# Altium schematic symbol library Processor.SchLib: 13 symbols
Pins are listed as number, name and electrical type; pins without a type are passive.

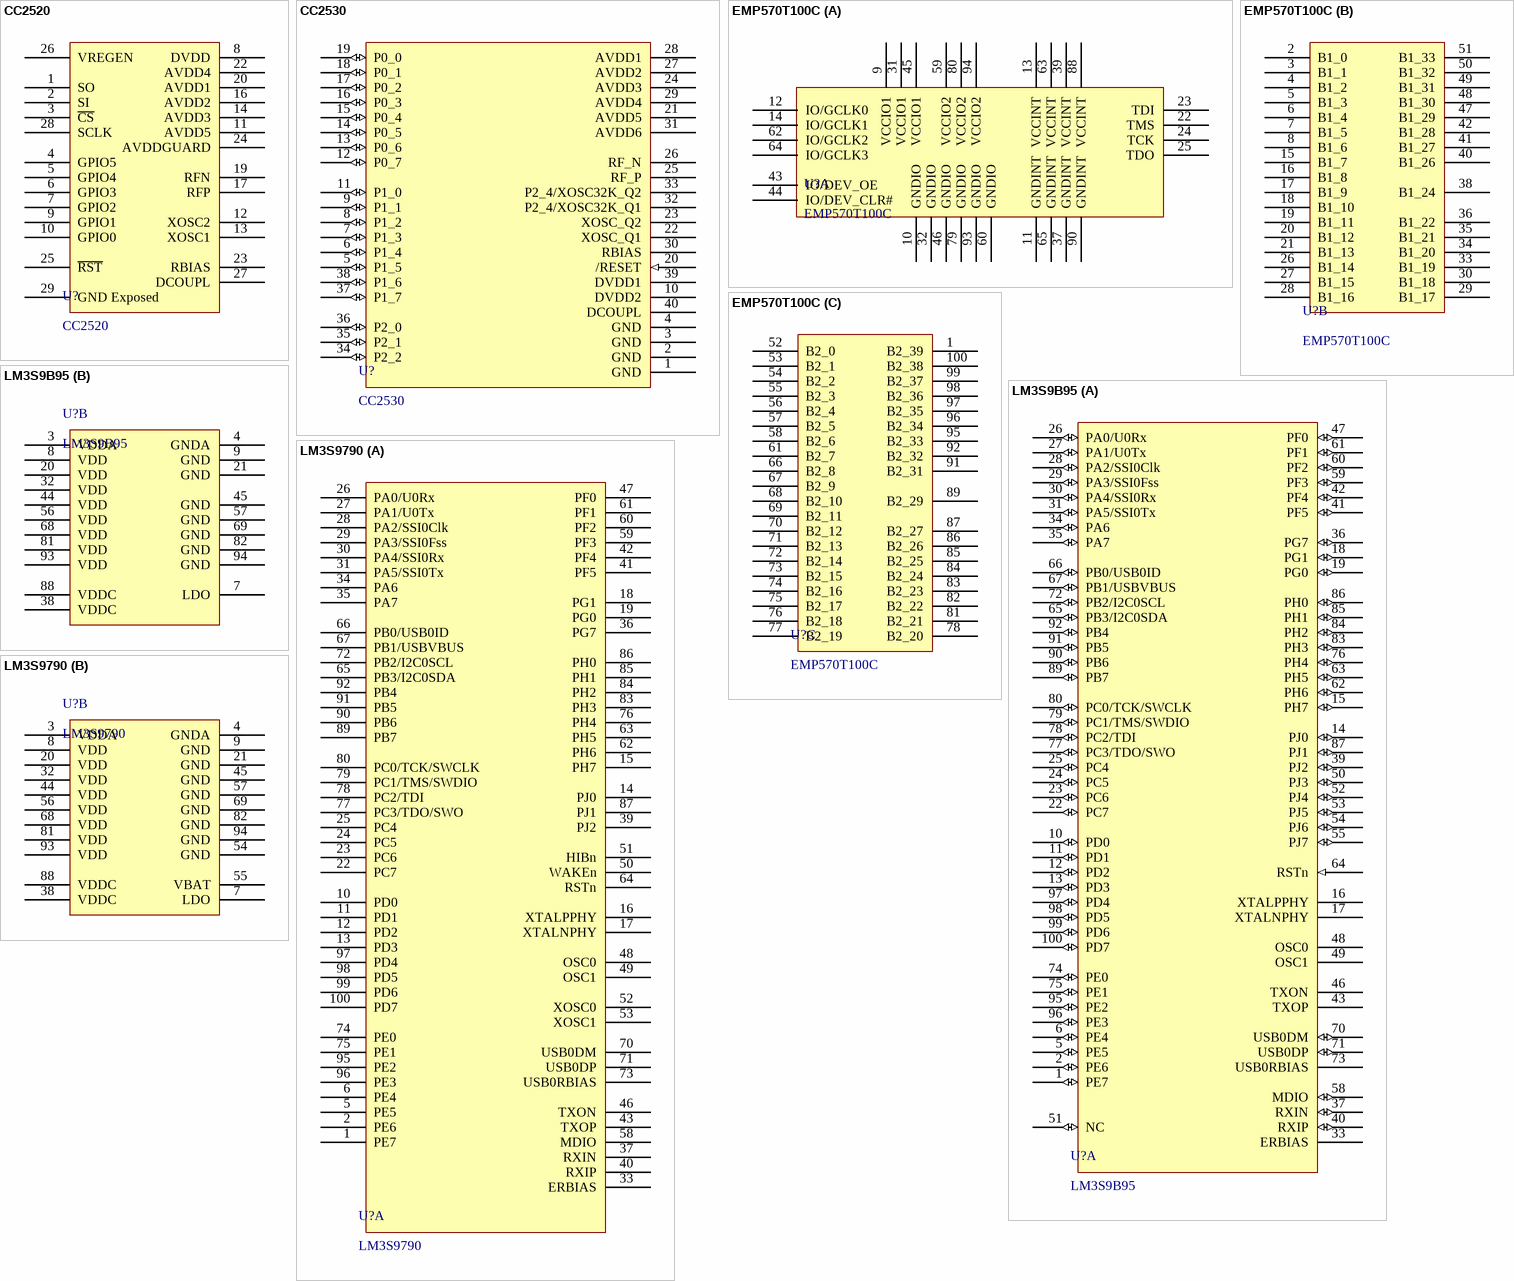
[diagram p0: symbols CC2520 to LM3S9790]

## CC2520
designator U?
ZigBee RF Tranciver
pins: 1 SO, 2 SI, 3 ~{CS}, 4 GPIO5, 5 GPIO4, 6 GPIO3, 7 GPIO2, 8 DVDD (power), 9 GPIO1, 10 GPIO0, 11 AVDD5 (power), 12 XOSC2, 13 XOSC1, 14 AVDD3 (power), 16 AVDD2 (power), 17 RFP, 19 RFN, 20 AVDD1 (power), 22 AVDD4 (power), 23 RBIAS, 24 AVDDGUARD (power), 25 ~{RST}, 26 VREGEN, 27 DCOUPL, 28 SCLK, 29 GND Exposed (power)

## CC2530
designator U?
TI ZigBee SOC
footprint VQFN40
pins: 1 GND (power), 2 GND (power), 3 GND (power), 4 GND (power), 5 P1_5 (io), 6 P1_4 (io), 7 P1_3 (io), 8 P1_2 (io), 9 P1_1 (io), 10 DVDD2 (power), 11 P1_0 (io), 12 P0_7 (io), 13 P0_6 (io), 14 P0_5 (io), 15 P0_4 (io), 16 P0_3 (io), 17 P0_2 (io), 18 P0_1 (io), 19 P0_0 (io), 20 /RESET (in), 21 AVDD5 (power), 22 XOSC_Q1, 23 XOSC_Q2, 24 AVDD3 (power), 25 RF_P, 26 RF_N, 27 AVDD2 (power), 28 AVDD1 (power), 29 AVDD4 (power), 30 RBIAS, 31 AVDD6 (power), 32 P2_4/XOSC32K_Q1, 33 P2_4/XOSC32K_Q2, 34 P2_2 (io), 35 P2_1 (io), 36 P2_0 (io), 37 P1_7 (io), 38 P1_6 (io), 39 DVDD1 (power), 40 DCOUPL (power)

## EMP570T100C
designator U?
Altera CPLD-V.B
footprint TQFP100_L (100-Pin Thin Quad Flat Pack 0.5 mm Pitch, IPC High Density)
part A pins: 9 VCCIO1, 10 GNDIO, 11 GNDINT, 12 IO/GCLK0, 13 VCCINT, 14 IO/GCLK1, 22 TMS, 23 TDI, 24 TCK, 25 TDO, 31 VCCIO1, 32 GNDIO, 37 GNDINT, 39 VCCINT, 43 IO/DEV_OE, 44 IO/DEV_CLR#, 45 VCCIO1, 46 GNDIO, 59 VCCIO2, 60 GNDIO, 62 IO/GCLK2, 63 VCCINT, 64 IO/GCLK3, 65 GNDINT, 79 GNDIO, 80 VCCIO2, 88 VCCINT, 90 GNDINT, 93 GNDIO, 94 VCCIO2
part B pins: 2 B1_0, 3 B1_1, 4 B1_2, 5 B1_3, 6 B1_4, 7 B1_5, 8 B1_6, 15 B1_7, 16 B1_8, 17 B1_9, 18 B1_10, 19 B1_11, 20 B1_12, 21 B1_13, 26 B1_14, 27 B1_15, 28 B1_16, 29 B1_17, 30 B1_18, 33 B1_19, 34 B1_20, 35 B1_21, 36 B1_22, 38 B1_24, 40 B1_26, 41 B1_27, 42 B1_28, 47 B1_29, 48 B1_30, 49 B1_31, 50 B1_32, 51 B1_33
part C pins: 1 B2_39, 52 B2_0, 53 B2_1, 54 B2_2, 55 B2_3, 56 B2_4, 57 B2_5, 58 B2_6, 61 B2_7, 66 B2_8, 67 B2_9, 68 B2_10, 69 B2_11, 70 B2_12, 71 B2_13, 72 B2_14, 73 B2_15, 74 B2_16, 75 B2_17, 76 B2_18, 77 B2_19, 78 B2_20, 81 B2_21, 82 B2_22, 83 B2_23, 84 B2_24, 85 B2_25, 86 B2_26, 87 B2_27, 89 B2_29, 91 B2_31, 92 B2_32, 95 B2_33, 96 B2_34, 97 B2_35, 98 B2_36, 99 B2_37, 100 B2_38

## LM3S9B95
designator U?
TI Stellaris Cortex-M3
part A pins: 1 PE7 (io), 2 PE6 (io), 5 PE5 (io), 6 PE4 (io), 10 PD0 (io), 11 PD1 (io), 12 PD2 (io), 13 PD3 (io), 14 PJ0 (io), 15 PH7 (io), 16 XTALPPHY, 17 XTALNPHY, 18 PG1 (io), 19 PG0 (io), 22 PC7 (io), 23 PC6 (io), 24 PC5 (io), 25 PC4 (io), 26 PA0/U0Rx (io), 27 PA1/U0Tx (io), 28 PA2/SSI0Clk (io), 29 PA3/SSI0Fss (io), 30 PA4/SSI0Rx (io), 31 PA5/SSI0Tx (io), 33 ERBIAS, 34 PA6 (io), 35 PA7 (io), 36 PG7 (io), 37 RXIN (io), 39 PJ2 (io), 40 RXIP (io), 41 PF5 (io), 42 PF4 (io), 43 TXOP, 46 TXON, 47 PF0 (io), 48 OSC0, 49 OSC1, 50 PJ3 (io), 51 NC (io), 52 PJ4 (io), 53 PJ5 (io), 54 PJ6 (io), 55 PJ7 (io), 58 MDIO (io), 59 PF3 (io), 60 PF2 (io), 61 PF1 (io), 62 PH6 (io), 63 PH5 (io), 64 RSTn (in), 65 PB3/I2C0SDA (io), 66 PB0/USB0ID (io), 67 PB1/USBVBUS (io), 70 USB0DM (io), 71 USB0DP (io), 72 PB2/I2C0SCL (io), 73 USB0RBIAS, 74 PE0 (io), 75 PE1 (io), 76 PH4 (io), 77 PC3/TDO/SWO (io), 78 PC2/TDI (io), 79 PC1/TMS/SWDIO (io), 80 PC0/TCK/SWCLK (io), 83 PH3 (io), 84 PH2 (io), 85 PH1 (io), 86 PH0 (io), 87 PJ1 (io), 89 PB7 (io), 90 PB6 (io), 91 PB5 (io), 92 PB4 (io), 95 PE2 (io), 96 PE3 (io), 97 PD4 (io), 98 PD5 (io), 99 PD6 (io), 100 PD7 (io)
part B pins: 3 VDDA (power), 4 GNDA (power), 7 LDO (power), 8 VDD (power), 9 GND (power), 20 VDD (power), 21 GND (power), 32 VDD (power), 38 VDDC (power), 44 VDD (power), 45 GND (power), 56 VDD (power), 57 GND (power), 68 VDD (power), 69 GND (power), 81 VDD (power), 82 GND (power), 88 VDDC (power), 93 VDD (power), 94 GND (power)

## LM3S9790
designator U?
TI Stellaris Cortex-M3
part A pins: 1 PE7 (power), 2 PE6 (power), 5 PE5 (power), 6 PE4 (power), 10 PD0 (power), 11 PD1 (power), 12 PD2 (power), 13 PD3 (power), 14 PJ0 (power), 15 PH7 (power), 16 XTALPPHY (power), 17 XTALNPHY (power), 18 PG1 (power), 19 PG0 (power), 22 PC7 (power), 23 PC6 (power), 24 PC5 (power), 25 PC4 (power), 26 PA0/U0Rx (power), 27 PA1/U0Tx (power), 28 PA2/SSI0Clk (power), 29 PA3/SSI0Fss (power), 30 PA4/SSI0Rx (power), 31 PA5/SSI0Tx (power), 33 ERBIAS (power), 34 PA6 (power), 35 PA7 (power), 36 PG7 (power), 37 RXIN (power), 39 PJ2 (power), 40 RXIP (power), 41 PF5 (power), 42 PF4 (power), 43 TXOP (power), 46 TXON (power), 47 PF0 (power), 48 OSC0 (power), 49 OSC1 (power), 50 WAKEn (power), 51 HIBn (power), 52 XOSC0 (power), 53 XOSC1 (power), 58 MDIO (power), 59 PF3 (power), 60 PF2 (power), 61 PF1 (power), 62 PH6 (power), 63 PH5 (power), 64 RSTn (power), 65 PB3/I2C0SDA (power), 66 PB0/USB0ID (power), 67 PB1/USBVBUS (power), 70 USB0DM (power), 71 USB0DP (power), 72 PB2/I2C0SCL (power), 73 USB0RBIAS (power), 74 PE0 (power), 75 PE1 (power), 76 PH4 (power), 77 PC3/TDO/SWO (power), 78 PC2/TDI (power), 79 PC1/TMS/SWDIO (power), 80 PC0/TCK/SWCLK (power), 83 PH3 (power), 84 PH2 (power), 85 PH1 (power), 86 PH0 (power), 87 PJ1 (power), 89 PB7 (power), 90 PB6 (power), 91 PB5 (power), 92 PB4 (power), 95 PE2 (power), 96 PE3 (power), 97 PD4 (power), 98 PD5 (power), 99 PD6 (power), 100 PD7 (power)
part B pins: 3 VDDA (power), 4 GNDA (power), 7 LDO (power), 8 VDD (power), 9 GND (power), 20 VDD (power), 21 GND (power), 32 VDD (power), 38 VDDC (power), 44 VDD (power), 45 GND (power), 54 GND (power), 55 VBAT (power), 56 VDD (power), 57 GND (power), 68 VDD (power), 69 GND (power), 81 VDD (power), 82 GND (power), 88 VDDC (power), 93 VDD (power), 94 GND (power)

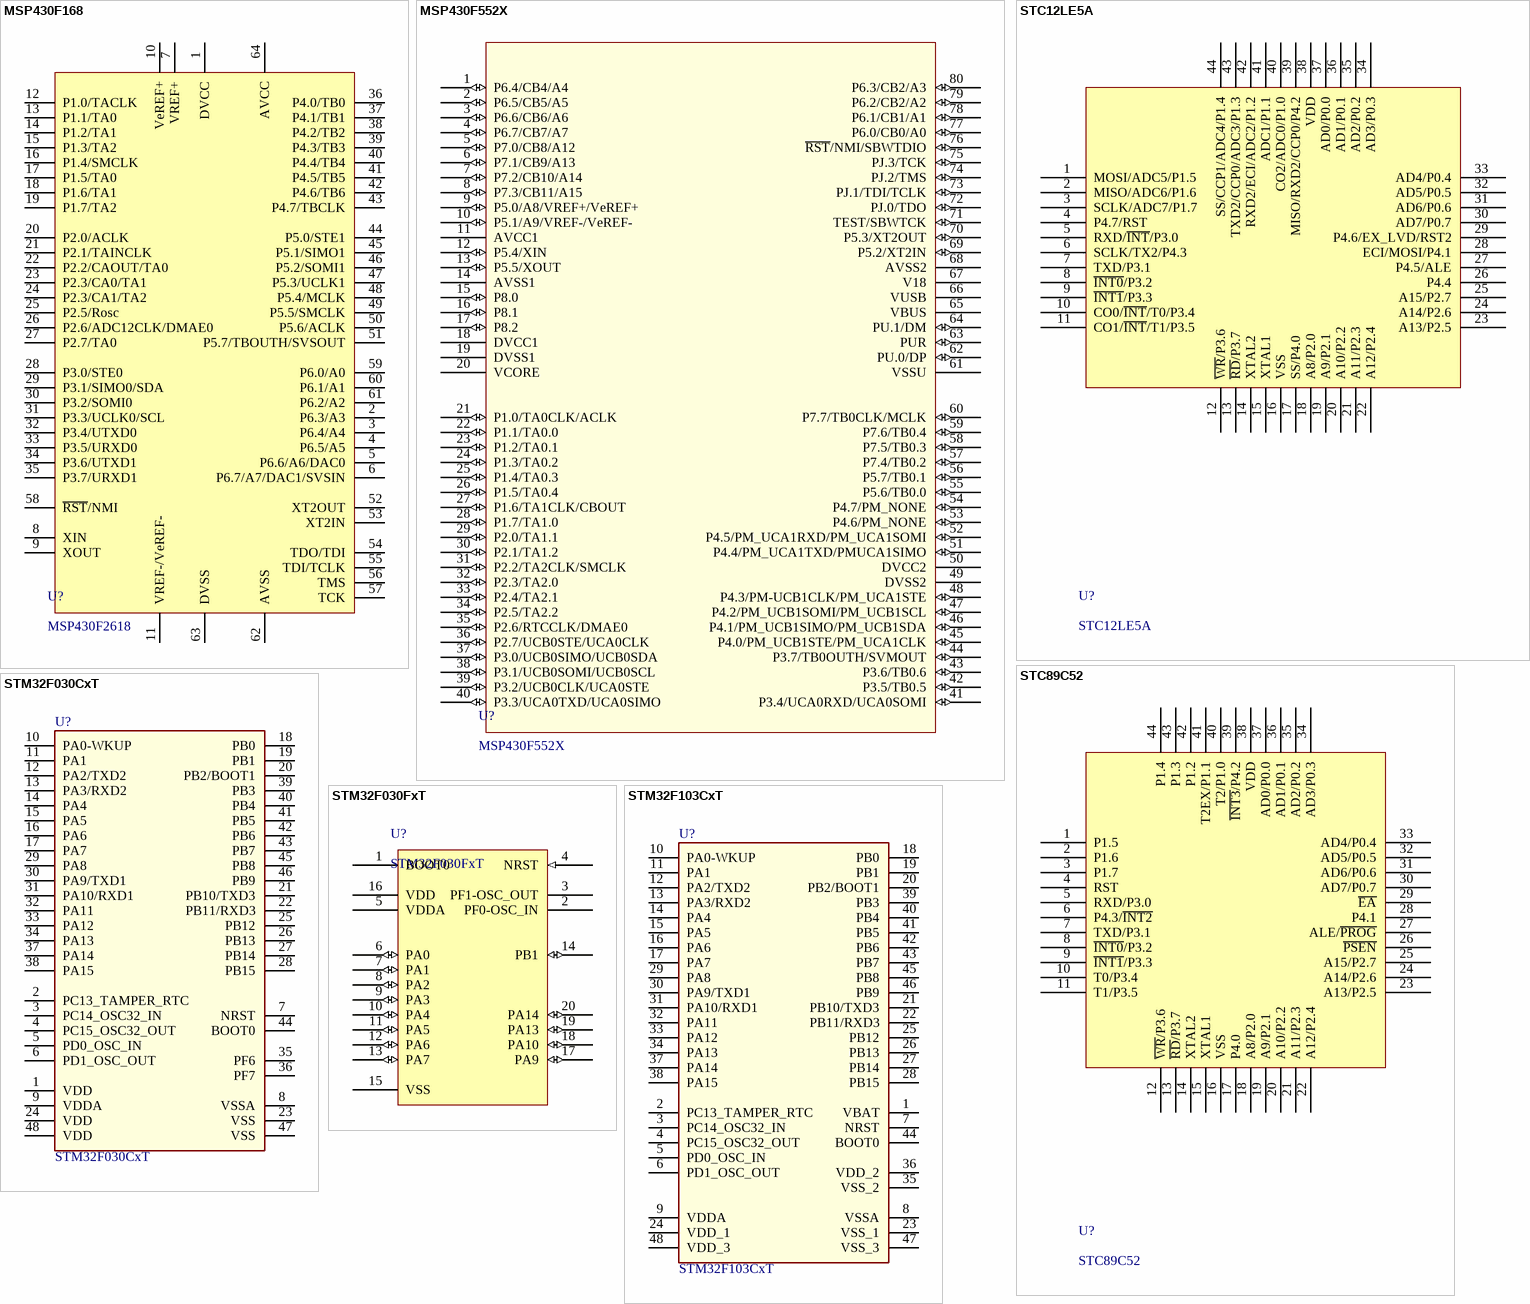
[diagram p1: symbols MSP430F168 to STM32F103CxT]

## MSP430F168
designator U?, comment MSP430F2618
Mixed Signal Microcontroller
footprint PM064_M (64-Pin Thin Quad Flat Pack 0.5 mm Pitch, IPC Low Density)
pins: 1 DVCC (power), 2 P6.3/A3 (power), 3 P6.4/A4 (power), 4 P6.5/A5 (power), 5 P6.6/A6/DAC0 (power), 6 P6.7/A7/DAC1/SVSIN (power), 7 VREF+ (power), 8 XIN (power), 9 XOUT (power), 10 VeREF+ (power), 11 VREF-/VeREF- (power), 12 P1.0/TACLK (power), 13 P1.1/TA0 (power), 14 P1.2/TA1 (power), 15 P1.3/TA2 (power), 16 P1.4/SMCLK (power), 17 P1.5/TA0 (power), 18 P1.6/TA1 (power), 19 P1.7/TA2 (power), 20 P2.0/ACLK (power), 21 P2.1/TAINCLK (power), 22 P2.2/CAOUT/TA0 (power), 23 P2.3/CA0/TA1 (power), 24 P2.3/CA1/TA2 (power), 25 P2.5/Rosc (power), 26 P2.6/ADC12CLK/DMAE0 (power), 27 P2.7/TA0 (power), 28 P3.0/STE0 (power), 29 P3.1/SIMO0/SDA (power), 30 P3.2/SOMI0 (power), 31 P3.3/UCLK0/SCL (power), 32 P3.4/UTXD0 (power), 33 P3.5/URXD0 (power), 34 P3.6/UTXD1 (power), 35 P3.7/URXD1 (power), 36 P4.0/TB0 (power), 37 P4.1/TB1 (power), 38 P4.2/TB2 (power), 39 P4.3/TB3 (power), 40 P4.4/TB4 (power), 41 P4.5/TB5 (power), 42 P4.6/TB6 (power), 43 P4.7/TBCLK (power), 44 P5.0/STE1 (power), 45 P5.1/SIMO1 (power), 46 P5.2/SOMI1 (power), 47 P5.3/UCLK1 (power), 48 P5.4/MCLK (power), 49 P5.5/SMCLK (power), 50 P5.6/ACLK (power), 51 P5.7/TBOUTH/SVSOUT (power), 52 XT2OUT (power), 53 XT2IN (power), 54 TDO/TDI (power), 55 TDI/TCLK (power), 56 TMS (power), 57 TCK (power), 58 ~{RST}/NMI (power), 59 P6.0/A0 (power), 60 P6.1/A1 (power), 61 P6.2/A2 (power), 62 AVSS (power), 63 DVSS (power), 64 AVCC (power)

## MSP430F552X
designator U?
MSP430 MCU
pins: 1 P6.4/CB4/A4 (io), 2 P6.5/CB5/A5 (io), 3 P6.6/CB6/A6 (io), 4 P6.7/CB7/A7 (io), 5 P7.0/CB8/A12 (io), 6 P7.1/CB9/A13 (io), 7 P7.2/CB10/A14 (io), 8 P7.3/CB11/A15 (io), 9 P5.0/A8/VREF+/VeREF+ (io), 10 P5.1/A9/VREF-/VeREF- (io), 11 AVCC1 (power), 12 P5.4/XIN (io), 13 P5.5/XOUT (io), 14 AVSS1 (power), 15 P8.0 (io), 16 P8.1 (io), 17 P8.2 (io), 18 DVCC1 (power), 19 DVSS1 (power), 20 VCORE (power), 21 P1.0/TA0CLK/ACLK (io), 22 P1.1/TA0.0 (io), 23 P1.2/TA0.1 (io), 24 P1.3/TA0.2 (io), 25 P1.4/TA0.3 (io), 26 P1.5/TA0.4 (io), 27 P1.6/TA1CLK/CBOUT (io), 28 P1.7/TA1.0 (io), 29 P2.0/TA1.1 (io), 30 P2.1/TA1.2 (io), 31 P2.2/TA2CLK/SMCLK (io), 32 P2.3/TA2.0 (io), 33 P2.4/TA2.1 (io), 34 P2.5/TA2.2 (io), 35 P2.6/RTCCLK/DMAE0 (io), 36 P2.7/UCB0STE/UCA0CLK (io), 37 P3.0/UCB0SIMO/UCB0SDA (io), 38 P3.1/UCB0SOMI/UCB0SCL (io), 39 P3.2/UCB0CLK/UCA0STE (io), 40 P3.3/UCA0TXD/UCA0SIMO (io), 41 P3.4/UCA0RXD/UCA0SOMI (io), 42 P3.5/TB0.5 (io), 43 P3.6/TB0.6 (io), 44 P3.7/TB0OUTH/SVMOUT (io), 45 P4.0/PM_UCB1STE/PM_UCA1CLK (io), 46 P4.1/PM_UCB1SIMO/PM_UCB1SDA (io), 47 P4.2/PM_UCB1SOMI/PM_UCB1SCL (io), 48 P4.3/PM-UCB1CLK/PM_UCA1STE (io), 49 DVSS2 (power), 50 DVCC2 (power), 51 P4.4/PM_UCA1TXD/PMUCA1SIMO (io), 52 P4.5/PM_UCA1RXD/PM_UCA1SOMI (io), 53 P4.6/PM_NONE (io), 54 P4.7/PM_NONE (io), 55 P5.6/TB0.0 (io), 56 P5.7/TB0.1 (io), 57 P7.4/TB0.2 (io), 58 P7.5/TB0.3 (io), 59 P7.6/TB0.4 (io), 60 P7.7/TB0CLK/MCLK (io), 61 VSSU (power), 62 PU.0/DP (io), 63 PUR (io), 64 PU.1/DM (io), 65 VBUS (power), 66 VUSB (power), 67 V18 (power), 68 AVSS2 (power), 69 P5.2/XT2IN (io), 70 P5.3/XT2OUT (io), 71 TEST/SBWTCK (io), 72 PJ.0/TDO (io), 73 PJ.1/TDI/TCLK (io), 74 PJ.2/TMS (io), 75 PJ.3/TCK (io), 76 ~{RST}/NMI/SBWTDIO (io), 77 P6.0/CB0/A0 (io), 78 P6.1/CB1/A1 (io), 79 P6.2/CB2/A2 (io), 80 P6.3/CB2/A3 (io)

## STC12LE5A
designator U?
footprint TQFP44
pins: 1 MOSI/ADC5/P1.5, 2 MISO/ADC6/P1.6, 3 SCLK/ADC7/P1.7, 4 P4.7/RST, 5 RXD/~{INT}/P3.0, 6 SCLK/TX2/P4.3, 7 TXD/P3.1, 8 ~{INT0}/P3.2, 9 ~{INT1}/P3.3, 10 CO0/~{INT}/T0/P3.4, 11 CO1/~{INT}/T1/P3.5, 12 ~{WR}/P3.6, 13 ~{RD}/P3.7, 14 XTAL2, 15 XTAL1, 16 VSS, 17 SS/P4.0, 18 A8/P2.0, 19 A9/P2.1, 20 A10/P2.2, 21 A11/P2.3, 22 A12/P2.4, 23 A13/P2.5, 24 A14/P2.6, 25 A15/P2.7, 26 P4.4, 27 P4.5/ALE, 28 ECI/MOSI/P4.1, 29 P4.6/EX_LVD/RST2, 30 AD7/P0.7, 31 AD6/P0.6, 32 AD5/P0.5, 33 AD4/P0.4, 34 AD3/P0.3, 35 AD2/P0.2, 36 AD1/P0.1, 37 AD0/P0.0, 38 VDD, 39 MISO/RXD2/CCP0/P4.2, 40 CO2/ADC0/P1.0, 41 ADC1/P1.1, 42 RXD2/ECI/ADC2/P1.2, 43 TXD2/CCP0/ADC3/P1.3, 44 SS/CCP1/ADC4/P1.4

## STC89C52
designator U?
footprint TQFP44
pins: 1 P1.5, 2 P1.6, 3 P1.7, 4 RST, 5 RXD/P3.0, 6 P4.3/~{INT2}, 7 TXD/P3.1, 8 ~{INT0}/P3.2, 9 ~{INT1}/P3.3, 10 T0/P3.4, 11 T1/P3.5, 12 ~{WR}/P3.6, 13 ~{RD}/P3.7, 14 XTAL2, 15 XTAL1, 16 VSS, 17 P4.0, 18 A8/P2.0, 19 A9/P2.1, 20 A10/P2.2, 21 A11/P2.3, 22 A12/P2.4, 23 A13/P2.5, 24 A14/P2.6, 25 A15/P2.7, 26 ~{PSEN}, 27 ALE/~{PROG}, 28 P4.1, 29 ~{EA}, 30 AD7/P0.7, 31 AD6/P0.6, 32 AD5/P0.5, 33 AD4/P0.4, 34 AD3/P0.3, 35 AD2/P0.2, 36 AD1/P0.1, 37 AD0/P0.0, 38 VDD, 39 ~{INT3}/P4.2, 40 T2/P1.0, 41 T2EX/P1.1, 42 P1.2, 43 P1.3, 44 P1.4

## STM32F030CxT
designator U?
Cortex M0, 48-pin LQFP
footprint LQFP-48
pins: 1 VDD, 2 PC13_TAMPER_RTC, 3 PC14_OSC32_IN, 4 PC15_OSC32_OUT, 5 PD0_OSC_IN, 6 PD1_OSC_OUT, 7 NRST, 8 VSSA, 9 VDDA, 10 PA0-WKUP, 11 PA1, 12 PA2/TXD2, 13 PA3/RXD2, 14 PA4, 15 PA5, 16 PA6, 17 PA7, 18 PB0, 19 PB1, 20 PB2/BOOT1, 21 PB10/TXD3, 22 PB11/RXD3, 23 VSS, 24 VDD, 25 PB12, 26 PB13, 27 PB14, 28 PB15, 29 PA8, 30 PA9/TXD1, 31 PA10/RXD1, 32 PA11, 33 PA12, 34 PA13, 35 PF6, 36 PF7, 37 PA14, 38 PA15, 39 PB3, 40 PB4, 41 PB5, 42 PB6, 43 PB7, 44 BOOT0, 45 PB8, 46 PB9, 47 VSS, 48 VDD

## STM32F030FxT
designator U?
Cortex M0, 20-pin TSSOP
footprint TSSOP20 (Shrink Small Outline; 20 Leads; Body Width 4.4 mm; Pitch 0.65 mm)
pins: 1 BOOT0, 2 PF0-OSC_IN, 3 PF1-OSC_OUT, 4 NRST (in), 5 VDDA (power), 6 PA0 (io), 7 PA1 (io), 8 PA2 (io), 9 PA3 (io), 10 PA4 (io), 11 PA5 (io), 12 PA6 (io), 13 PA7 (io), 14 PB1 (io), 15 VSS (power), 16 VDD (power), 17 PA9 (io), 18 PA10 (io), 19 PA13 (io), 20 PA14 (io)

## STM32F103CxT
designator U?
Cortex M3, 48-pin LQFP
footprint LQFP-48
pins: 1 VBAT, 2 PC13_TAMPER_RTC, 3 PC14_OSC32_IN, 4 PC15_OSC32_OUT, 5 PD0_OSC_IN, 6 PD1_OSC_OUT, 7 NRST, 8 VSSA, 9 VDDA, 10 PA0-WKUP, 11 PA1, 12 PA2/TXD2, 13 PA3/RXD2, 14 PA4, 15 PA5, 16 PA6, 17 PA7, 18 PB0, 19 PB1, 20 PB2/BOOT1, 21 PB10/TXD3, 22 PB11/RXD3, 23 VSS_1, 24 VDD_1, 25 PB12, 26 PB13, 27 PB14, 28 PB15, 29 PA8, 30 PA9/TXD1, 31 PA10/RXD1, 32 PA11, 33 PA12, 34 PA13, 35 VSS_2, 36 VDD_2, 37 PA14, 38 PA15, 39 PB3, 40 PB4, 41 PB5, 42 PB6, 43 PB7, 44 BOOT0, 45 PB8, 46 PB9, 47 VSS_3, 48 VDD_3

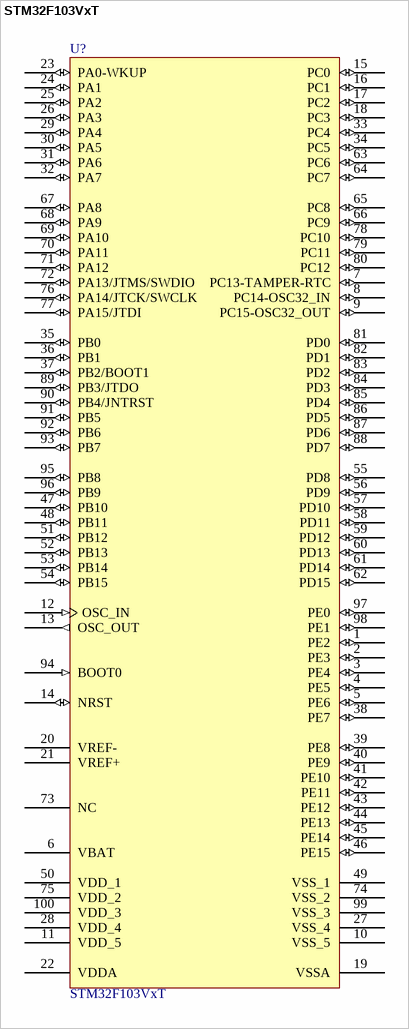
[diagram p2: symbol STM32F103VxT]

## STM32F103VxT
designator U?
Cortex M3, 100-pin LQFP; Published: 30-May-2008; DatasheetVersion: rev6, Mar-2008; PackageVersion: Mar-2008; PackageReference: LQFP100; Publisher: Altium Limited; PackageDescription: 100-Pin Low-Profile Quad Flat Pack, 14 x 14 mm Body, 0.5 mm Pitch (LQFP100); ComponentLink1Description: Manufacturer Link; ComponentLink1URL: www.st.com/stm32; ComponentLink2Description: Datasheet; ComponentLink2URL: http://www.st.com/stonline/products/literature/ds/13587.pdf
footprint LQFP100_N (Thin QFP, 100-Leads, Body 14x14mm, Pitch 0.5mm, IPC Medium Density)
pins: 1 PE2 (io), 2 PE3 (io), 3 PE4 (io), 4 PE5 (io), 5 PE6 (io), 6 VBAT (power), 7 PC13-TAMPER-RTC (io), 8 PC14-OSC32_IN (io), 9 PC15-OSC32_OUT (io), 10 VSS_5 (power), 11 VDD_5 (power), 12 OSC_IN (in), 13 OSC_OUT (out), 14 NRST (io), 15 PC0 (io), 16 PC1 (io), 17 PC2 (io), 18 PC3 (io), 19 VSSA (power), 20 VREF- (power), 21 VREF+ (power), 22 VDDA (power), 23 PA0-WKUP (io), 24 PA1 (io), 25 PA2 (io), 26 PA3 (io), 27 VSS_4 (power), 28 VDD_4 (power), 29 PA4 (io), 30 PA5 (io), 31 PA6 (io), 32 PA7 (io), 33 PC4 (io), 34 PC5 (io), 35 PB0 (io), 36 PB1 (io), 37 PB2/BOOT1 (io), 38 PE7 (io), 39 PE8 (io), 40 PE9 (io), 41 PE10 (io), 42 PE11 (io), 43 PE12 (io), 44 PE13 (io), 45 PE14 (io), 46 PE15 (io), 47 PB10 (io), 48 PB11 (io), 49 VSS_1 (power), 50 VDD_1 (power), 51 PB12 (io), 52 PB13 (io), 53 PB14 (io), 54 PB15 (io), 55 PD8 (io), 56 PD9 (io), 57 PD10 (io), 58 PD11 (io), 59 PD12 (io), 60 PD13 (io), 61 PD14 (io), 62 PD15 (io), 63 PC6 (io), 64 PC7 (io), 65 PC8 (io), 66 PC9 (io), 67 PA8 (io), 68 PA9 (io), 69 PA10 (io), 70 PA11 (io), 71 PA12 (io), 72 PA13/JTMS/SWDIO (io), 73 NC, 74 VSS_2 (power), 75 VDD_2 (power), 76 PA14/JTCK/SWCLK (io), 77 PA15/JTDI (io), 78 PC10 (io), 79 PC11 (io), 80 PC12 (io), 81 PD0 (io), 82 PD1 (io), 83 PD2 (io), 84 PD3 (io), 85 PD4 (io), 86 PD5 (io), 87 PD6 (io), 88 PD7 (io), 89 PB3/JTDO (io), 90 PB4/JNTRST (io), 91 PB5 (io), 92 PB6 (io), 93 PB7 (io), 94 BOOT0 (in), 95 PB8 (io), 96 PB9 (io), 97 PE0 (io), 98 PE1 (io), 99 VSS_3 (power), 100 VDD_3 (power)